# EAGLE library part MS5607 (library QADT)
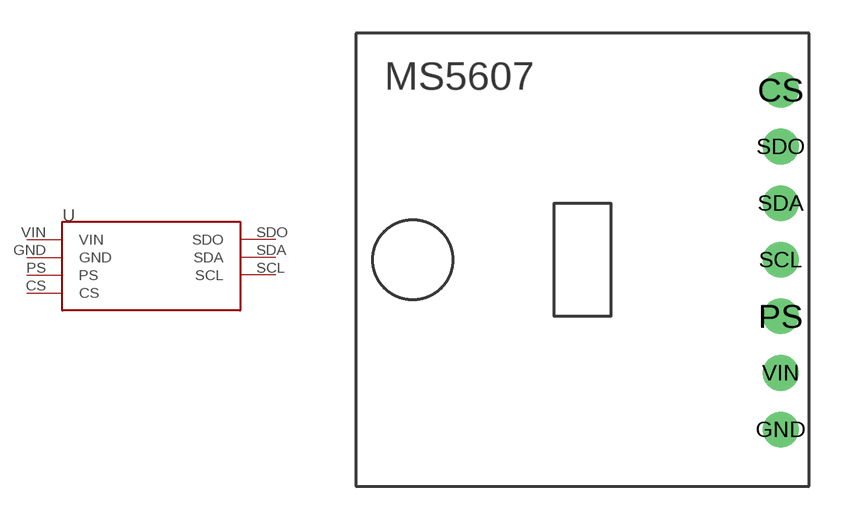
[diagram p3: symbol with the pads of MS5607; footprint MS5607]

Designator prefix -

## MS5607  [MS5607]
CS  CS
GND  GND
PS  PS
SCL  SCL
SDA  SDA
SDO  SDO
VIN  VIN

## Footprint MS5607 (pad centres in mm)
drill 1.067: CS 0,7.62; GND 0,-7.62; PS 0,-2.54; SCL 0,0; SDA 0,2.54; SDO 0,5.08; VIN 0,-5.08